# Altium schematic symbol library MOC3020.SchLib: 1 symbol
Pins are listed as number, name and electrical type; pins without a type are passive.

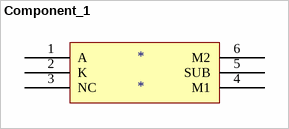
[diagram p0: symbol Component_1]

## Component_1
designator *
footprint MOC3020 - duplicate
pins: 1 A, 2 K, 3 NC, 4 M1, 5 SUB, 6 M2